# Altium schematic symbol library AO3401.SchLib: 1 symbol
Pins are listed as number, name and electrical type; pins without a type are passive.

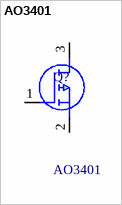
[diagram p0: symbol AO3401]

## AO3401
designator Q?
P-Channel 30 V 4A (Ta) 1.4W (Ta) Surface Mount SOT-23-3; Manufacturer_Name: Alpha & Omega Semiconductors; Geometry.Height: 1.25mm; Manufacturer_Part_Number: AO3401; Mouser Part Number: *; Mouser Price/Stock: *; Arrow Part Number: AO3401; Arrow Price/Stock: https://www.arrow.com/en/products/ao3401/alpha-and-omega-semiconductor.html?utm_currency=USD&region=asia; Datasheet Link: https://www.aosmd.com/sites/default/files/res/datasheets/AO3401.pdf
footprint SOT95P280X125-3N
pins: 1 G, 2 S, 3 D